# Altium footprint library Package_TO_SOT_SMD.PcbLib: 125 footprints (part 2 of 8)
Each footprint in its own frame and in the unit in brackets; x right, y up, seen from the top. Pads: shape width x height; smd on the part's side, far side on the other; paste and mask are expansions set on the pad; w line width, h text height; cw(c..) or ccw(c..) is an arc to the next point about the centre after c.
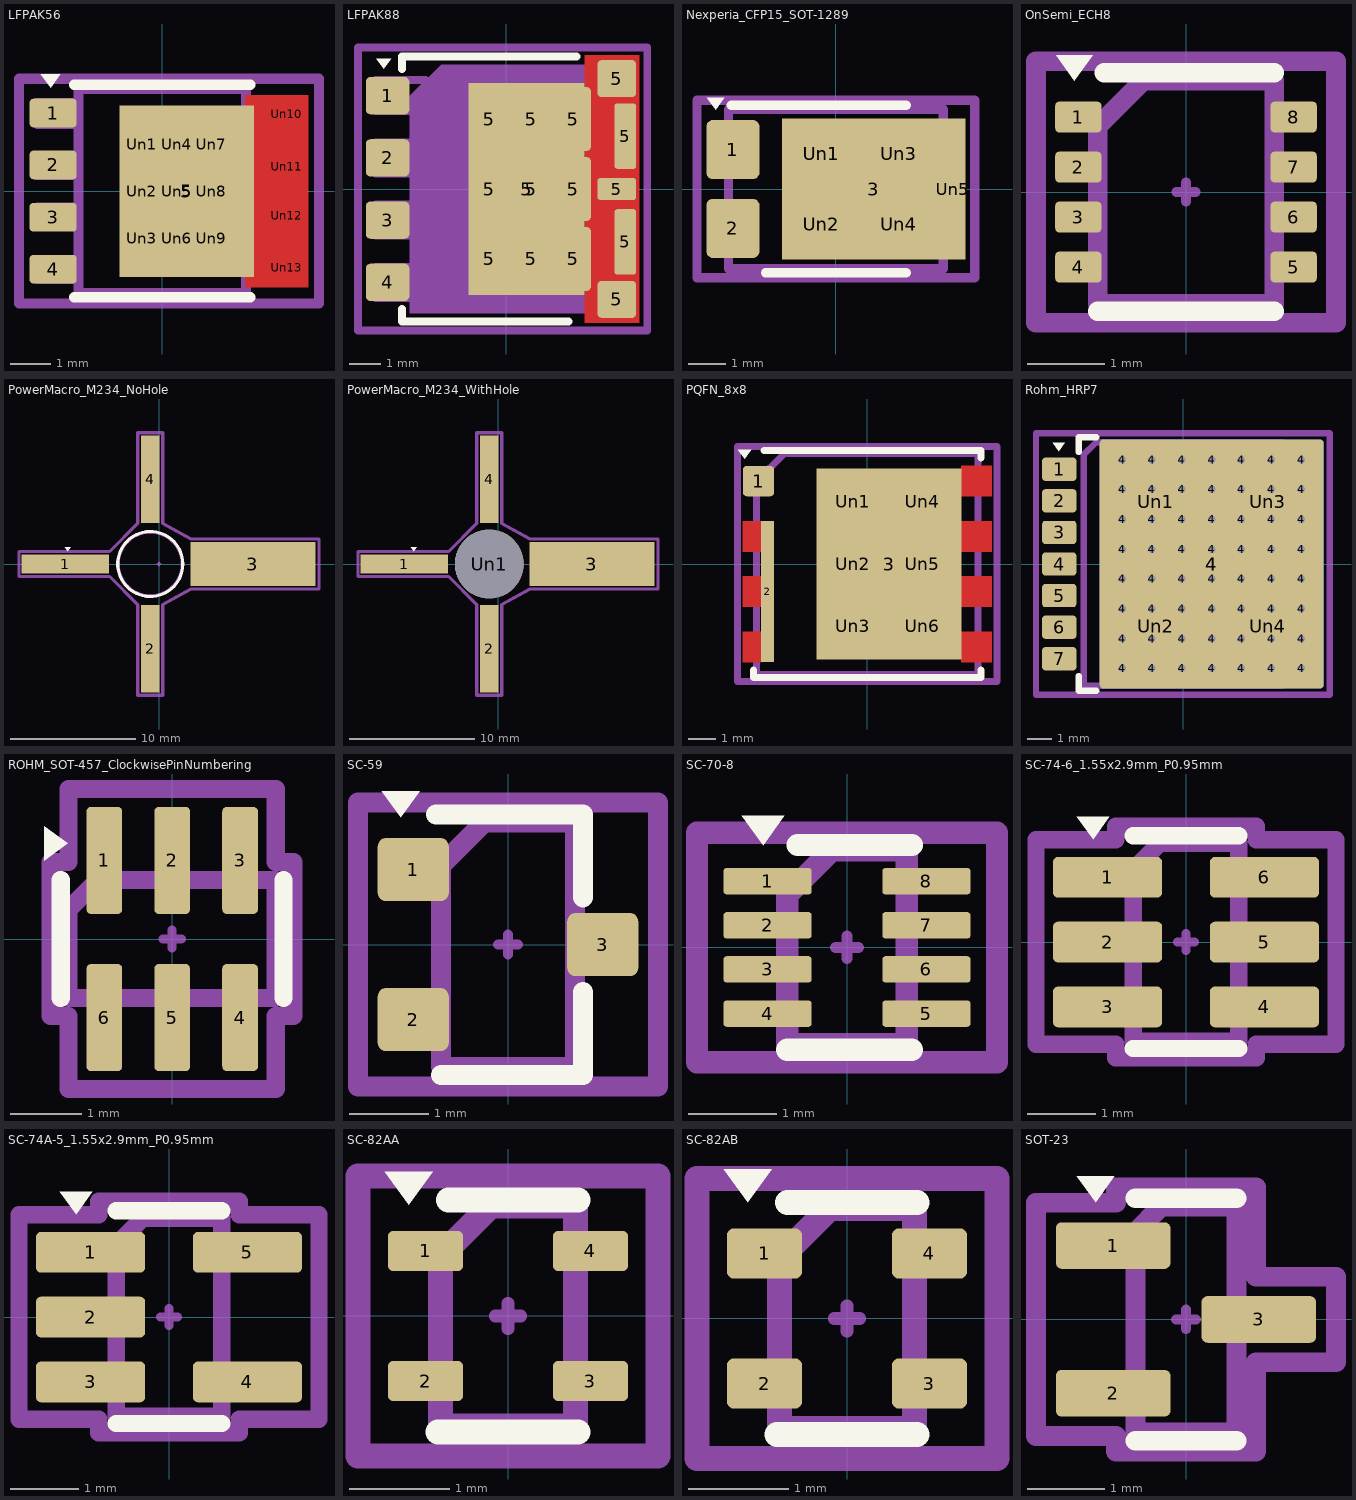
[diagram p1: the footprints below, top view; thin cyan lines are the x and y axes]

## LFPAK56 [mm] "LFPAK56"
pads (18):
  rrect25% 1.15x0.7 smd: 1(-2.67,1.91) 2(-2.67,0.64) 3(-2.67,-0.64) 4(-2.67,-1.91)
  rect 3.3x4.2 smd: 5(0.6,0)
  rrect25% 0.6x0.9 on Top Paste: Un1(-0.5,1.15) Un2(-0.5,0) Un3(-0.5,-1.15) Un4(0.35,1.15) Un5(0.35,0) Un6(0.35,-1.15) Un7(1.2,1.15) Un8(1.2,0) Un9(1.2,-1.15)
  rrect25% 0.9x0.6 on Top Paste: Un10(3.05,1.88) Un11(3.05,0.6) Un12(3.05,-0.6) Un13(3.05,-1.88)
F.Cu:
  region: 3.575,-2.35 2.025,-2.35 2.025,2.35 3.575,2.35
F.SilkS:
  region: -2.73,2.523 -2.97,2.853 -2.49,2.853
  lines w0.254: -2.15,-2.6 2.15,-2.6 ; -2.15,2.6 2.15,2.6
F.Mask:
  region: 3.575,-2.35 2.025,-2.35 2.025,2.35 3.575,2.35
Top Component Center:
  lines w0.127: -0.127,0 0.127,0 ; 0,-0.127 0,0.127
Top Assembly:
  lines w0.254: -2.05,-2.15 -3.05,-2.15 -3.05,-1.7 -2.05,-1.7 ; -2.05,-0.85 -3.05,-0.85 -3.05,-0.4 -2.05,-0.4 ; -2.05,0.4 -3.05,0.4 -3.05,0.85 -2.05,0.85 ; -2.05,1.65 -3.05,1.65 -3.05,2.15 -2.05,2.15 ; 2.05,-2.2 3.35,-2.2 3.35,2.2 2.05,2.2 ; -2.05,-2.5 -2.05,2.5 2.05,2.5 2.05,-2.5 -2.05,-2.5
Top Courtyard:
  lines w0.254: -3.505,-2.75 -3.505,2.75 3.835,2.75 3.835,-2.75 -3.505,-2.75
Top Designator:
  text ".Designator" at -3.432,-0.345 h1.52
3D body "LFPAK56.step": height 1.02, standoff 0, extent -2.95,-2.45 3.05,2.45

## LFPAK88 [mm] "LFPAK88"
pads (19):
  rrect25% 1.4x1.2 smd: 1(-3.82,3) 2(-3.82,1) 3(-3.82,-1) 4(-3.82,-3)
  rrect25% 1.15x2.05 smd: 5(-0.55,-2.25) 5(-0.55,0) 5(-0.55,2.25) 5(0.8,-2.25) 5(0.8,0) 5(0.8,2.25) 5(2.15,-2.25) 5(2.15,0) 5(2.15,2.25)
  rect 3.74x6.8 smd: 5(0.65,0)
  rrect25% 1.25x1.2 smd: 5(3.55,-3.55) 5(3.55,3.55)
  rrect25% 1.25x0.7 smd: 5(3.55,0)
  rrect25% 0.7x2.1 smd: 5(3.825,-1.7) 5(3.825,1.7)
F.Cu:
  region: 4.28,-4.3 2.52,-4.3 2.52,-3.4 2.52,3.4 2.52,4.3 4.28,4.3
F.SilkS:
  region: -3.94,3.86 -4.18,4.19 -3.7,4.19
  lines w0.254: -3.36,-3.86 -3.36,-4.26 2,-4.26 ; -3.36,3.86 -3.36,4.26 2.26,4.26
F.Mask:
  region: 4.28,-4.3 2.52,-4.3 2.52,-3.4 2.52,3.4 2.52,4.3 4.28,4.3
Top Component Center:
  lines w0.127: -0.127,0 0.127,0 ; 0,-0.127 0,0.127
Top Assembly:
  region: 3.1,-4 -3.1,-4 -3.1,3 -2.1,4 3.1,4
  lines w0.254: -3.1,2.5 -4.2,2.5 -4.2,3.5 -2.6,3.5 ; -4.2,-3.5 -4.2,-2.5 -3.1,-2.5 -3.1,-3.5 -4.2,-3.5 ; -4.2,-1.5 -4.2,-0.5 -3.1,-0.5 -3.1,-1.5 -4.2,-1.5 ; -4.2,0.5 -4.2,1.5 -3.1,1.5 -3.1,0.5 -4.2,0.5 ; 3.1,-4 3.1,4 3.8,4 3.8,-4 3.1,-4
Top Courtyard:
  lines w0.254: -4.77,-4.55 -4.77,4.55 4.53,4.55 4.53,-4.55 -4.77,-4.55
Top Designator:
  text ".Designator" at -3.432,-0.345 h1.52
3D body "LFPAK88.step": height 1.61, standoff 0, extent -3.99,-4 4.01,4

## Nexperia_CFP15_SOT-1289 [mm] "Nexperia_CFP15_SOT-1289"
pads (8):
  rrect25% 1.44x1.6 smd: 1(-2.78,1.065) 2(-2.78,-1.065)
  rect 4.96x3.8 smd: 3(1.02,0)
  rrect25% 1.9x1.7 on Top Paste: Un1(-0.4,0.95) Un2(-0.4,-0.95) Un3(1.7,0.95) Un4(1.7,-0.95)
  rrect25% 0.6x2.4 on Top Paste: Un5(3.15,0)
F.SilkS:
  region: -3.25,2.14 -3.49,2.47 -3.01,2.47
  lines w0.254: -2.83,2.26 1.9,2.26 ; -1.9,-2.26 1.9,-2.26
Top Component Center:
  lines w0.127: -0.127,0 0.127,0 ; 0,-0.127 0,0.127
Top Assembly:
  lines w0.254: -0.75,0 -0.25,0 ; 0.35,-0.55 0.35,0.55 ; 0.75,0 0.35,0 ; 0.35,0 -0.25,-0.4 -0.25,0.4 0.35,0 ; -2.9,-2.15 2.9,-2.15 2.9,2.15 -2.9,2.15 -2.9,-2.15
Top Courtyard:
  lines w0.254: -3.75,-2.4 3.75,-2.4 3.75,2.4 -3.75,2.4 -3.75,-2.4
Top Designator:
  text ".Designator" at -3.432,-0.345 h1.52

## OnSemi_ECH8 [mm] "OnSemi_ECH8"
pads (8):
  rrect25% 0.6x0.4 smd: 1(-1.4,0.975) 2(-1.4,0.325) 3(-1.4,-0.325) 4(-1.4,-0.975) 5(1.4,-0.975) 6(1.4,-0.325) 7(1.4,0.325) 8(1.4,0.975)
F.SilkS:
  region: -1.45,1.45 -1.69,1.78 -1.21,1.78
  lines w0.254: -1.15,-1.55 1.15,-1.55 ; -1.06,1.55 1.15,1.55
Top Component Center:
  lines w0.127: -0.127,0 0.127,0 ; 0,-0.127 0,0.127
Top Assembly:
  lines w0.254: -1.15,-1.45 -1.15,0.85 -0.55,1.45 1.15,1.45 1.15,-1.45 -1.15,-1.45
Top Courtyard:
  lines w0.254: -1.95,-1.7 -1.95,1.7 1.95,1.7 1.95,-1.7 -1.95,-1.7
Top Designator:
  text ".Designator" at -3.432,-0.345 h1.52
3D body "OnSemi_ECH8.step": height 0.92, standoff 0, extent -1.4,-1.45 1.4,1.45

## PowerMacro_M234_NoHole [mm] "PowerMacro_M234_NoHole"
pads (4):
  rect 7x1.5 smd: 1(-7.5,0)
  rect 1.5x7 smd: 2(-0.7,-6.8) 4(-0.7,6.8)
  rect 10x3.5 smd: 3(7.5,0)
F.SilkS:
  circle w0.254: c-0.7,0 r2.6
  region: -7.3,1.03 -7.54,1.36 -7.06,1.36
Top Component Center:
  lines w0.127: -0.127,0 0.127,0 ; 0,-0.127 0,0.127
Top Assembly:
  circle w0.254: c-0.7,0 r2.55
Top Courtyard:
  lines w0.254: -11.2,-1 -3.95,-1 -1.7,-3.25 -1.7,-10.5 0.3,-10.5 0.3,-3.25 2.55,-2 12.8,-2 12.8,2 2.55,2 0.3,3.25 0.3,10.5 -1.7,10.5 -1.7,3.25 -3.95,1 -11.2,1 -11.2,-1
Top Designator:
  text ".Designator" at -3.432,-0.345 h1.52

## PowerMacro_M234_WithHole [mm] "PowerMacro_M234_WithHole"
pads (5):
  rect 7x1.5 smd: 1(-7.5,0)
  rect 1.5x7 smd: 2(-0.7,-6.8) 4(-0.7,6.8)
  rect 10x3.5 smd: 3(7.5,0)
  round 5.5 hole 5.5: Un1(-0.7,0)
F.SilkS:
  region: -6.75,1.03 -6.99,1.36 -6.51,1.36
Top Component Center:
  lines w0.127: -0.127,0 0.127,0 ; 0,-0.127 0,0.127
Top Assembly:
  circle w0.254: c-0.7,0 r2.55
Top Courtyard:
  lines w0.254: -11.2,-1 -11.2,1 -3.95,1 -1.7,3.25 -1.7,10.5 0.3,10.5 0.3,3.25 2.55,2 12.8,2 12.8,-2 2.55,-2 0.3,-3.25 0.3,-10.5 -1.7,-10.5 -1.7,-3.25 -3.95,-1 -11.2,-1
Top Designator:
  text ".Designator" at -3.432,-0.345 h1.52

## PQFN_8x8 [mm] "PQFN_8x8"
pads (9):
  rrect25% 1.13x1.1 smd: 1(-3.935,3)
  rect 0.48x5.1 smd: 2(-3.61,-1)
  rect 5.23x6.9 smd: 3(0.785,0)
  rrect25% 1.5x1.5 on Top Paste: Un1(-0.5,2.25) Un2(-0.5,0) Un3(-0.5,-2.25) Un4(2,2.25) Un5(2,0) Un6(2,-2.25)
F.Cu:
  region: 4.5,-3.55 3.4,-3.55 3.4,-2.45 4.5,-2.45
  region: 4.5,-1.55 3.4,-1.55 3.4,-0.45 4.5,-0.45
  region: 4.5,0.45 3.4,0.45 3.4,1.55 4.5,1.55
  region: 4.5,2.45 3.4,2.45 3.4,3.55 4.5,3.55
  region: -3.85,-3.55 -4.5,-3.55 -4.5,-2.45 -3.85,-2.45
  region: -3.85,-1.55 -4.5,-1.55 -4.5,-0.45 -3.85,-0.45
  region: -3.85,0.45 -4.5,0.45 -4.5,1.55 -3.85,1.55
F.SilkS:
  region: -4.44,3.81 -4.68,4.14 -4.2,4.14
  lines w0.254: -4.11,-3.83 -4.11,-4.11 4.11,-4.11 4.11,-3.83 ; -3.74,4.11 4.11,4.11 4.11,3.83
F.Paste:
  region: -3.85,-3.55 -4.5,-3.55 -4.5,-2.45 -3.85,-2.45
  region: -3.85,-1.55 -4.5,-1.55 -4.5,-0.45 -3.85,-0.45
  region: -3.85,0.45 -4.5,0.45 -4.5,1.55 -3.85,1.55
F.Mask:
  region: 4.5,-3.55 3.4,-3.55 3.4,-2.45 4.5,-2.45
  region: 4.5,-1.55 3.4,-1.55 3.4,-0.45 4.5,-0.45
  region: 4.5,0.45 3.4,0.45 3.4,1.55 4.5,1.55
  region: 4.5,2.45 3.4,2.45 3.4,3.55 4.5,3.55
  region: -3.85,-3.55 -4.5,-3.55 -4.5,-2.45 -3.85,-2.45
  region: -3.85,-1.55 -4.5,-1.55 -4.5,-0.45 -3.85,-0.45
  region: -3.85,0.45 -4.5,0.45 -4.5,1.55 -3.85,1.55
Top Component Center:
  lines w0.127: -0.127,0 0.127,0 ; 0,-0.127 0,0.127
Top Assembly:
  circle w0.254: c0,0 r0.25
  lines w0.254: -0.25,0 0.25,0 ; 0,-0.25 0,0.25 ; -4,-4 4,-4 4,4 -3,4 -4,3 -4,-4
Top Courtyard:
  lines w0.254: -4.69,-4.25 4.69,-4.25 4.69,4.25 -4.69,4.25 -4.69,-4.25
Top Designator:
  text ".Designator" at -3.432,-0.345 h1.52

## Rohm_HRP7 [mm] "Rohm_HRP7"
pads (69):
  rrect25% 1.37x0.93 smd: 1(-4.985,3.81) 2(-4.985,2.54) 3(-4.985,1.27) 4(-4.985,0) 5(-4.985,-1.27) 6(-4.985,-2.54) 7(-4.985,-3.81)
  round 0.6 hole 0.3: 4(-2.46,-4.2) 4(-2.46,-3) 4(-2.46,-1.8) 4(-2.46,-0.6) 4(-2.46,0.6) 4(-2.46,1.8) 4(-2.46,3) 4(-2.46,4.2) 4(-1.26,-4.2) 4(-1.26,-3) 4(-1.26,-1.8) 4(-1.26,-0.6) 4(-1.26,0.6) 4(-1.26,1.8) 4(-1.26,3) 4(-1.26,4.2) 4(-0.06,-4.2) 4(-0.06,-3) 4(-0.06,-1.8) 4(-0.06,-0.6) 4(-0.06,0.6) 4(-0.06,1.8) 4(-0.06,3) 4(-0.06,4.2) 4(1.14,-4.2) 4(1.14,-3) 4(1.14,-1.8) 4(1.14,-0.6) 4(1.14,0.6) 4(1.14,1.8) 4(1.14,3) 4(1.14,4.2) 4(2.34,-4.2) 4(2.34,-3) 4(2.34,-1.8) 4(2.34,-0.6) 4(2.34,0.6) 4(2.34,1.8) 4(2.34,3) 4(2.34,4.2) 4(3.54,-4.2) 4(3.54,-3) 4(3.54,-1.8) 4(3.54,-0.6) 4(3.54,0.6) 4(3.54,1.8) 4(3.54,3) 4(3.54,4.2) 4(4.74,-4.2) 4(4.74,-3) 4(4.74,-1.8) 4(4.74,-0.6) 4(4.74,0.6) 4(4.74,1.8) 4(4.74,3) 4(4.74,4.2)
  rrect3% 9x10 smd: 4(1.14,0)
  rrect3% 9x10 smd far side: 4(1.14,0)
  rrect6% 4x4.5 on Top Paste: Un1(-1.11,2.5) Un2(-1.11,-2.5) Un3(3.39,2.5) Un4(3.39,-2.5)
F.SilkS:
  region: -5.01,4.54 -5.25,4.87 -4.77,4.87
  lines w0.254: -4.2,-4.5 -4.2,-5.1 -3.5,-5.1 ; -4.2,4.5 -4.2,5.1 -3.5,5.1
Top Component Center:
  lines w0.127: -0.127,0 0.127,0 ; 0,-0.127 0,0.127
Top Assembly:
  lines w0.254: 4,-4.4 4.5,-4.4 5,-3.3 5,3.3 4.5,4.4 4,4.4 ; -4,-4.9 4,-4.9 4,4.9 -3.5,4.9 -4,4.4 -4,-4.9
Top Courtyard:
  lines w0.254: -5.92,-5.25 5.89,-5.25 5.89,5.25 -5.92,5.25 -5.92,-5.25
Top Designator:
  text ".Designator" at -3.447,-0.345 h1.52
3D body "Rohm_HRP7.step": height 1.92, standoff 0, extent -5.523,-4.697 5.017,4.697

## ROHM_SOT-457_ClockwisePinNumbering [mm] "ROHM_SOT-457_ClockwisePinNumbering"
pads (6):
  rrect25% 0.5x1.5 smd: 1(-0.95,1.1) 2(0,1.1) 3(0.95,1.1) 4(0.95,-1.1) 5(0,-1.1) 6(-0.95,-1.1)
F.SilkS:
  region: -1.46,1.338 -1.79,1.098 -1.79,1.578
  lines w0.254: -1.56,-0.825 -1.56,0 -1.56,0.825 ; 1.56,-0.825 1.56,0 1.56,0.825
Top Component Center:
  lines w0.127: -0.127,0 0.127,0 ; 0,-0.127 0,0.127
Top Assembly:
  lines w0.254: -1.45,-0.825 1.45,-0.825 1.45,0.825 -1.038,0.825 -1.45,0.413 -1.45,-0.825
Top Courtyard:
  lines w0.254: -1.7,-1.08 -1.45,-1.08 -1.45,-2.1 1.45,-2.1 1.45,-1.08 1.7,-1.08 1.7,1.08 1.45,1.08 1.45,2.1 -1.45,2.1 -1.45,1.08 -1.7,1.08 -1.7,-1.08
Top Designator:
  text ".Designator" at -3.432,-0.345 h1.52

## SC-59 [mm] "SC-59"
pads (3):
  rrect25% 0.9x0.8 smd: 1(-1.2,0.95) 2(-1.2,-0.95) 3(1.2,0)
F.SilkS:
  region: -1.36,1.612 -1.6,1.942 -1.12,1.942
  lines w0.254: -0.91,1.65 0.95,1.65 0.95,0.6 ; -0.85,-1.65 0.95,-1.65 0.95,-0.6
Top Component Center:
  lines w0.127: -0.127,0 0.127,0 ; 0,-0.127 0,0.127
Top Assembly:
  lines w0.254: 0.85,-1.55 -0.85,-1.55 -0.85,1 -0.3,1.55 0.85,1.55 ; 0.85,-1.52 0.85,1.52
Top Courtyard:
  lines w0.254: -1.9,-1.8 -1.9,1.8 1.9,1.8 1.9,-1.8 -1.9,-1.8
Top Designator:
  text ".Designator" at -3.432,-0.345 h1.52
3D body "SC-59.step": height 1.3, standoff 0, extent -1.4,-1.5 1.4,1.5

## SC-70-8 [mm] "SC-70-8"
pads (8):
  rrect25% 1x0.3 smd: 1(-0.9,0.75) 2(-0.9,0.25) 3(-0.9,-0.25) 4(-0.9,-0.75) 5(0.9,-0.75) 6(0.9,-0.25) 7(0.9,0.25) 8(0.9,0.75)
F.SilkS:
  region: -0.95,1.16 -1.19,1.49 -0.71,1.49
  lines w0.254: -0.675,-1.16 0.735,-1.16 ; -0.56,1.16 0.735,1.16
Top Component Center:
  lines w0.127: -0.127,0 0.127,0 ; 0,-0.127 0,0.127
Top Assembly:
  lines w0.254: -0.675,-1.1 0.675,-1.1 0.675,1.1 -0.175,1.1 -0.675,0.6 -0.675,-1.1
Top Courtyard:
  lines w0.254: -1.7,-1.3 1.7,-1.3 1.7,1.3 -1.7,1.3 -1.7,-1.3
Top Designator:
  text ".Designator" at -2.253,-0.226 h1
3D body "SC-70-8.step": height 1, standoff 0, extent -1.05,-1 1.05,1

## SC-74-6_1.55x2.9mm_P0.95mm [mm] "SC-74-6_1.55x2.9mm_P0.95mm"
pads (6):
  rrect25% 1.6x0.6 smd: 1(-1.15,0.95) 2(-1.15,0) 3(-1.15,-0.95) 4(1.15,-0.95) 5(1.15,0) 6(1.15,0.95)
F.SilkS:
  region: -1.362,1.51 -1.603,1.84 -1.122,1.84
  lines w0.254: -0.775,-1.56 0,-1.56 0.775,-1.56 ; -0.775,1.56 0,1.56 0.775,1.56
Top Component Center:
  lines w0.127: -0.127,0 0.127,0 ; 0,-0.127 0,0.127
Top Assembly:
  lines w0.254: -0.775,-1.45 -0.775,1.062 -0.387,1.45 0.775,1.45 0.775,-1.45 -0.775,-1.45
Top Courtyard:
  lines w0.254: -2.2,-1.5 -2.2,1.5 -1.03,1.5 -1.03,1.7 1.03,1.7 1.03,1.5 2.2,1.5 2.2,-1.5 1.03,-1.5 1.03,-1.7 -1.03,-1.7 -1.03,-1.5 -2.2,-1.5
Top Designator:
  text ".Designator" at -3.432,-0.345 h1.52
3D body "SC-74-6_1.55x2.9mm_P0.95mm.step": height 1.17, standoff 0, extent -1.35,-1.45 1.35,1.45

## SC-74A-5_1.55x2.9mm_P0.95mm [mm] "SC-74A-5_1.55x2.9mm_P0.95mm"
pads (5):
  rrect25% 1.6x0.6 smd: 1(-1.15,0.95) 2(-1.15,0) 3(-1.15,-0.95) 4(1.15,-0.95) 5(1.15,0.95)
F.SilkS:
  region: -1.362,1.51 -1.603,1.84 -1.122,1.84
  lines w0.254: -0.775,-1.56 0,-1.56 0.775,-1.56 ; -0.775,1.56 0,1.56 0.775,1.56
Top Component Center:
  lines w0.127: -0.127,0 0.127,0 ; 0,-0.127 0,0.127
Top Assembly:
  lines w0.254: -0.775,-1.45 -0.775,1.062 -0.387,1.45 0.775,1.45 0.775,-1.45 -0.775,-1.45
Top Courtyard:
  lines w0.254: -2.2,-1.5 -2.2,1.5 -1.03,1.5 -1.03,1.7 1.03,1.7 1.03,1.5 2.2,1.5 2.2,-1.5 1.03,-1.5 1.03,-1.7 -1.03,-1.7 -1.03,-1.5 -2.2,-1.5
Top Designator:
  text ".Designator" at -3.432,-0.345 h1.52
3D body "SC-74A-5_1.55x2.9mm_P0.95mm.step": height 1.17, standoff 0, extent -1.35,-1.45 1.35,1.45

## SC-82AA [mm] "SC-82AA"
pads (4):
  rrect25% 0.75x0.4 smd: 1(-0.825,0.65) 2(-0.825,-0.65) 3(0.825,-0.65) 4(0.825,0.65)
F.SilkS:
  region: -0.99,1.11 -1.23,1.44 -0.75,1.44
  lines w0.254: -0.7,-1.16 0.7,-1.16 ; -0.595,1.16 0.7,1.16
Top Component Center:
  lines w0.127: -0.127,0 0.127,0 ; 0,-0.127 0,0.127
Top Assembly:
  lines w0.254: -0.675,-1.1 -0.675,0.6 -0.175,1.1 0.675,1.1 0.675,-1.1 -0.675,-1.1
Top Courtyard:
  lines w0.254: -1.5,-1.4 -1.5,1.4 1.5,1.4 1.5,-1.4 -1.5,-1.4
Top Designator:
  text ".Designator" at -3.432,-0.345 h1.52
3D body "SC-82AA.step": height 1, standoff 0, extent -1.05,-1 1.05,1

## SC-82AB [mm] "SC-82AB"
pads (4):
  rrect25% 0.75x0.5 smd: 1(-0.825,0.65) 2(-0.825,-0.65) 3(0.825,-0.65) 4(0.825,0.65)
F.SilkS:
  region: -0.99,1.16 -1.23,1.49 -0.75,1.49
  lines w0.254: -0.7,-1.16 0.7,-1.16 ; -0.595,1.16 0.7,1.16
Top Component Center:
  lines w0.127: -0.127,0 0.127,0 ; 0,-0.127 0,0.127
Top Assembly:
  lines w0.254: -0.675,-1.1 -0.675,0.6 -0.175,1.1 0.675,1.1 0.675,-1.1 -0.675,-1.1
Top Courtyard:
  lines w0.254: -1.5,-1.4 -1.5,1.4 1.5,1.4 1.5,-1.4 -1.5,-1.4
Top Designator:
  text ".Designator" at -2.253,-0.226 h1
3D body "SC-82AB.step": height 1, standoff 0, extent -1.05,-1 1.05,1

## SOT-23 [mm] "SOT-23"
pads (3):
  rrect25% 1.475x0.6 smd: 1(-0.937,0.95) 2(-0.937,-0.95) 3(0.937,0)
F.SilkS:
  region: -1.162,1.51 -1.402,1.84 -0.923,1.84
  lines w0.254: -0.65,-1.56 0,-1.56 0.65,-1.56 ; -0.65,1.56 0,1.56 0.65,1.56
Top Component Center:
  lines w0.127: -0.127,0 0.127,0 ; 0,-0.127 0,0.127
Top Assembly:
  lines w0.254: -0.65,-1.45 -0.65,1.125 -0.325,1.45 0.65,1.45 0.65,-1.45 -0.65,-1.45
Top Courtyard:
  lines w0.254: -1.93,-1.5 -1.93,1.5 -0.9,1.5 -0.9,1.7 0.9,1.7 0.9,0.55 1.93,0.55 1.93,-0.55 0.9,-0.55 0.9,-1.7 -0.9,-1.7 -0.9,-1.5 -1.93,-1.5
Top Designator:
  text ".Designator" at -3.432,-0.345 h1.52
3D body "SOT-23.step": height 1.2, standoff 0, extent -1.25,-1.5 1.25,1.5